# Altium footprint library PcbLib1.PcbLib: 3 footprints
Each footprint in its own frame and in the unit in brackets; x right, y up, seen from the top. Pads: shape width x height; smd on the part's side, far side on the other; paste and mask are expansions set on the pad; w line width, h text height; cw(c..) or ccw(c..) is an arc to the next point about the centre after c.
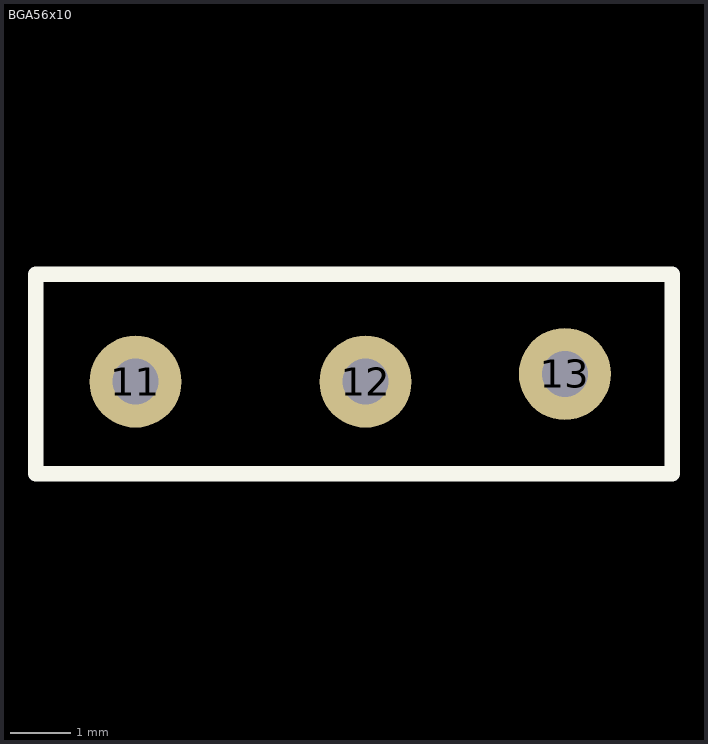
[diagram p0: the footprints below, top view; thin cyan lines are the x and y axes]

## 7812 [mil]

## BGA56x10 [mil]
pads (3):
  round 60 hole 30: 11(-380,-590) 12(-230,-590) 13(-100,-585)
Top Overlay:
  lines w10: -445,-650 -30,-650 -30,-520 -445,-520 -445,-650

## DIP40 [mil]